# EAGLE library part ADP3303 (library microbuilder)
ADP3303 - High Accuracy 200 mA LDO Digikey: 3.3V - ADP3303ARZ-3.3-ND Input: 3.5-12V Vf: 180mV @ 200mA Temp: -20°C-85°C Digikey: 5.0V - ADP3303ARZ-5-ND
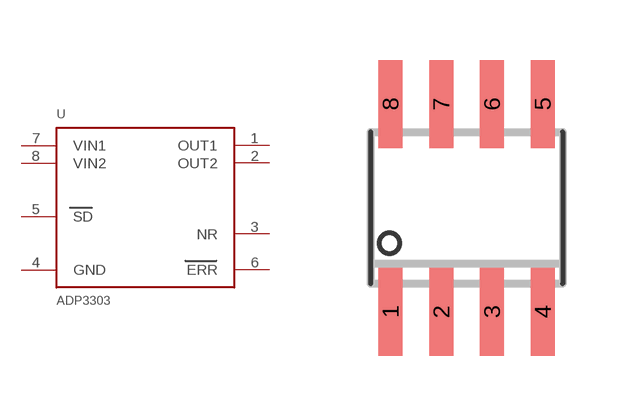
[diagram p82: symbol with the pads of SOIC8; footprint SOIC8]

Designator prefix U

## ADP3303  [SOIC8]
1  OUT1
2  OUT2
3  NR
4  GND
5  SD
6  ERR
7  VIN1
8  VIN2

## Footprint SOIC8 (pad centres in mm)
Small Outline IC
smd 0.6 x 2.2: 1 -1.905,-2.6; 2 -0.635,-2.6; 3 0.635,-2.6; 4 1.905,-2.6; 5 1.905,2.6; 6 0.635,2.6; 7 -0.635,2.6; 8 -1.905,2.6